# EAGLE library part CC3000 (library timearc)
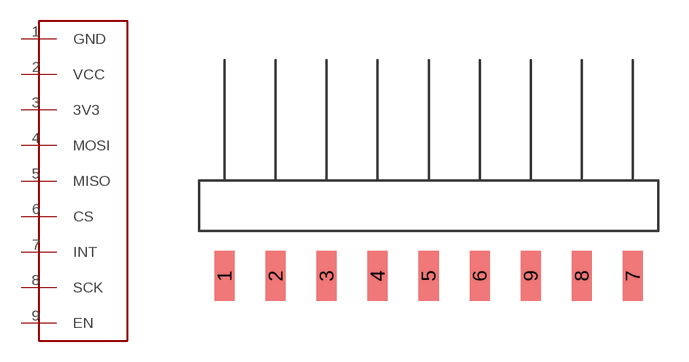
[diagram p0: symbol with the pads of 1X09-SMD; footprint 1X09-SMD]

Designator prefix -

## CC3000  [1X09-SMD]
1  GND
2  VCC
3  3V3
4  MOSI
5  MISO
6  CS
7  INT
8  SCK
9  EN

## Footprint 1X09-SMD (pad centres in mm)
smd 1 x 2.5: 1 -6.35,-3.5; 2 -3.81,-3.5; 3 -1.27,-3.5; 4 1.27,-3.5; 5 3.81,-3.5; 6 6.35,-3.5; 7 13.97,-3.5; 8 11.43,-3.5; 9 8.89,-3.5